# Altium schematic symbol library LimeMicroAltiumLib_schLib.SchLib: 172 symbols (part 3 of 7)
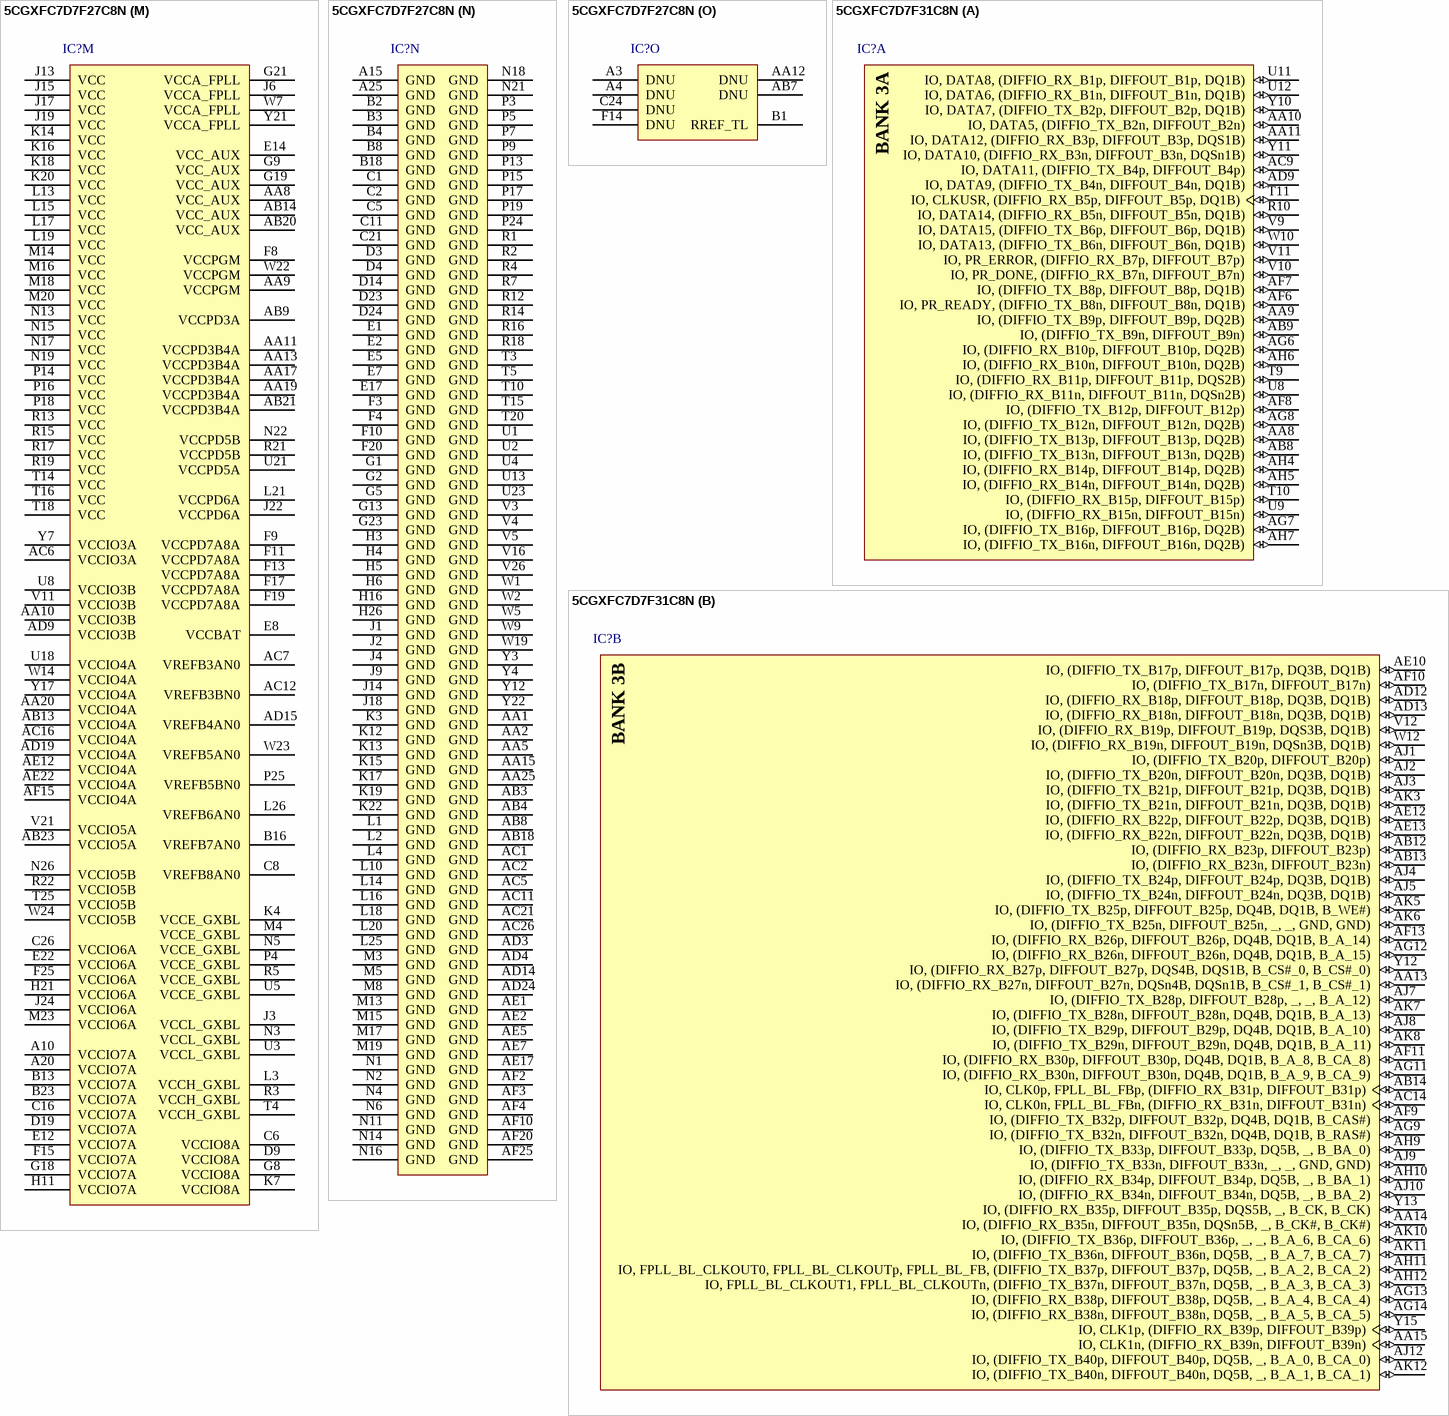
[diagram p33: symbols 5CGXFC7D7F27C8N to 5CGXFC7D7F31C8N]

## 5CGXFC7D7F27C8N
designator IC?
Cyclone V GX Family FPGA, 1.07 to 1.13 V Supply, 336 I/O Pins, 7 PLLs, 672-Pin FBGA, Speed Grade 8, Commercial Grade, RoHS Compliant; Manufacturer: Altera; Device Group: 5CGXFC7; GPIO: 336; Logic Elements (LE) (K): 149.5; Speed Grade: 8; NexusDeviceID: 5CGXFC7D7F27C8N; DatasheetVersion: Rev. 3.4; PackageVersion: Rev. 2.0, 12/2012; PackageReference: FBGA672_A-200; PackageDescription: 672-Pin FineLine Ball-Grid Array (FBGA), Body 27 x 27 mm, Pitch 1 mm; Supplier 1: Digi-Key; Supplier Part Number 1: 544-2773-ND; Supplier 2: Mouser; Supplier Part Number 2: 989-5CGXFC7D7F27C8N; RoHS: RoHS Compliant; Subcategory: Cyclone V GX; Voltage Supply: 1.07 to 1.13 V; Mounting Technology: Surface Mount; Code_JEDEC: MS-034-AAL-1; PartNumber: 5CGXFC7D7F27C8N; ComponentLink1Description: Manufacturer URL; ComponentLink1URL: http://www.altera.com; ComponentLink2Description: Datasheet; ComponentLink2URL: http://www.altera.com/literature/hb/cyclone-v/cv_51002.pdf; ComponentLink3Description: Package Specification; ComponentLink3URL: http://www.altera.com/devicepackaging/04R00427-01.pdf; ComponentLink4Description: Device Handbook URL; ComponentLink4URL: http://www.altera.com/literature/hb/cyclone-v/cyclone5_handbook.pdf; ComponentLink5Description: Device Pin-Out URL; ComponentLink5URL: http://www.altera.com/literature/dp/cyclone-v/5CGXFC7.xls; ComponentLink6Description: Device Overview URL; ComponentLink6URL: http://www.altera.com/literature/hb/cyclone-v/cv_51001.pdf; ComponentLink7Description: Product URL; ComponentLink7URL: http://www.buyaltera.com/scripts/partsearch.dll?Detail&name=5CGXFC7D7F27C8N-ND
footprint ALTR-FBGA672_A-200 (BGA, 672-Balls, Body 27x27mm, Pitch 1mm)
part A pins: AA6 IO, DATA11, (DIFFIO_TX_B4p, DIFFOUT_B4p) (io), AA7 IO, DATA13, (DIFFIO_TX_B6n, DIFFOUT_B6n, DQ1B) (io), AB6 IO, DATA9, (DIFFIO_TX_B4n, DIFFOUT_B4n, DQ1B) (io), AD6 IO, PR_READY, (DIFFIO_TX_B8n, DIFFOUT_B8n, DQ1B) (io), AD7 IO, (DIFFIO_TX_B8p, DIFFOUT_B8p, DQ1B) (io), P8 IO, PR_ERROR, (DIFFIO_RX_B7p, DIFFOUT_B7p) (io), R8 IO, PR_DONE, (DIFFIO_RX_B7n, DIFFOUT_B7n) (io), R9 IO, CLKUSR, (DIFFIO_RX_B5p, DIFFOUT_B5p, DQ1B) (io), R10 IO, DATA14, (DIFFIO_RX_B5n, DIFFOUT_B5n, DQ1B) (io), T7 IO, DATA6, (DIFFIO_RX_B1n, DIFFOUT_B1n, DQ1B) (io), T8 IO, DATA8, (DIFFIO_RX_B1p, DIFFOUT_B1p, DQ1B) (io), U7 IO, DATA5, (DIFFIO_TX_B2n, DIFFOUT_B2n) (io), V8 IO, DATA7, (DIFFIO_TX_B2p, DIFFOUT_B2p, DQ1B) (io), W8 IO, DATA10, (DIFFIO_RX_B3n, DIFFOUT_B3n, DQSn1B) (io), Y8 IO, DATA15, (DIFFIO_TX_B6p, DIFFOUT_B6p, DQ1B) (io), Y9 IO, DATA12, (DIFFIO_RX_B3p, DIFFOUT_B3p, DQS1B) (io)
part B pins: AB10 IO, (DIFFIO_TX_B28p, DIFFOUT_B28p, _, _, B_A_12) (io), AB11 IO, (DIFFIO_RX_B30n, DIFFOUT_B30n, DQ2B, _, B_A_9, B_CA_9) (io), AB12 IO, (DIFFIO_RX_B30p, DIFFOUT_B30p, DQ2B, _, B_A_8, B_CA_8) (io), AC8 IO, (DIFFIO_TX_B29n, DIFFOUT_B29n, DQ2B, _, B_A_11) (io), AC9 IO, (DIFFIO_TX_B29p, DIFFOUT_B29p, DQ2B, _, B_A_10) (io), AC10 IO, (DIFFIO_TX_B28n, DIFFOUT_B28n, DQ2B, _, B_A_13) (io), AD8 IO, (DIFFIO_RX_B34p, DIFFOUT_B34p, DQ3B, _, B_BA_1) (io), AE6 IO, (DIFFIO_TX_B40p, DIFFOUT_B40p, DQ3B, _, B_A_0, B_CA_0) (io), AE8 IO, (DIFFIO_RX_B34n, DIFFOUT_B34n, DQ3B, _, B_BA_2) (io), AE9 IO, (DIFFIO_TX_B36p, DIFFOUT_B36p, _, _, B_A_6, B_CA_6) (io), AF6 IO, (DIFFIO_TX_B40n, DIFFOUT_B40n, DQ3B, _, B_A_1, B_CA_1) (io), AF7 IO, FPLL_BL_CLKOUT0, FPLL_BL_CLKOUTp, FPLL_BL_FB, (DIFFIO_TX_B37p, DIFFOUT_B37p, DQ3B, _, B_A_2, B_CA_2) (io), AF8 IO, FPLL_BL_CLKOUT1, FPLL_BL_CLKOUTn, (DIFFIO_TX_B37n, DIFFOUT_B37n, DQ3B, _, B_A_3, B_CA_3) (io), AF9 IO, (DIFFIO_TX_B36n, DIFFOUT_B36n, DQ3B, _, B_A_7, B_CA_7) (io), N10 IO, (DIFFIO_RX_B35p, DIFFOUT_B35p, DQS3B, _, B_CK, B_CK) (io), P10 IO, (DIFFIO_RX_B35n, DIFFOUT_B35n, DQSn3B, _, B_CK#, B_CK#) (io), P11 IO, CLK1p, (DIFFIO_RX_B39p, DIFFOUT_B39p) (io), P12 IO, CLK1n, (DIFFIO_RX_B39n, DIFFOUT_B39n) (io), R11 IO, (DIFFIO_RX_B27p, DIFFOUT_B27p, DQS2B, _, B_CS#_0, B_CS#_0) (io), T9 IO, (DIFFIO_TX_B25p, DIFFOUT_B25p, DQ2B, _, B_WE#) (io), T11 IO, (DIFFIO_RX_B27n, DIFFOUT_B27n, DQSn2B, _, B_CS#_1, B_CS#_1) (io), T12 IO, CLK0n, FPLL_BL_FBn, (DIFFIO_RX_B31n, DIFFOUT_B31n) (io), T13 IO, CLK0p, FPLL_BL_FBp, (DIFFIO_RX_B31p, DIFFOUT_B31p) (io), U9 IO, (DIFFIO_TX_B25n, DIFFOUT_B25n, _, _, GND, GND) (io), U10 IO, (DIFFIO_RX_B38p, DIFFOUT_B38p, DQ3B, _, B_A_4, B_CA_4) (io), U11 IO, (DIFFIO_RX_B38n, DIFFOUT_B38n, DQ3B, _, B_A_5, B_CA_5) (io), V9 IO, (DIFFIO_TX_B33n, DIFFOUT_B33n, _, _, GND, GND) (io), V10 IO, (DIFFIO_TX_B33p, DIFFOUT_B33p, DQ3B, _, B_BA_0) (io), W10 IO, (DIFFIO_TX_B32p, DIFFOUT_B32p, DQ2B, _, B_CAS#) (io), W11 IO, (DIFFIO_RX_B26p, DIFFOUT_B26p, DQ2B, _, B_A_14) (io), Y10 IO, (DIFFIO_TX_B32n, DIFFOUT_B32n, DQ2B, _, B_RAS#) (io), Y11 IO, (DIFFIO_RX_B26n, DIFFOUT_B26n, DQ2B, _, B_A_15) (io)
part C pins: AA14 IO, (DIFFIO_RX_B42n, DIFFOUT_B42n, DQ4B, _, B_DQ_0, B_DQ_0) (io), AA16 IO, (DIFFIO_RX_B54p, DIFFOUT_B54p, DQ5B, DQ1B, B_DQ_13, B_DQ_13) (io), AA18 IO, (DIFFIO_RX_B74n, DIFFOUT_B74n, DQ8B, DQ2B, B_DQ_32, B_DQ_32) (io), AA21 IO, (DIFFIO_TX_B80n, DIFFOUT_B80n, DQ8B, DQ2B, B_DQ_39, B_DQ_39) (io), AB15 IO, (DIFFIO_RX_B50p, DIFFOUT_B50p, DQ5B, DQ1B, B_DQ_9, B_DQ_9) (io), AB16 IO, (DIFFIO_RX_B54n, DIFFOUT_B54n, DQ5B, DQ1B, B_DQ_12, B_DQ_12) (io), AB17 IO, (DIFFIO_RX_B62p, DIFFOUT_B62p, DQ6B, DQ1B, B_DQ_21, B_DQ_21) (io), AB19 IO, (DIFFIO_TX_B77p, DIFFOUT_B77p, DQ8B, DQ2B, B_DQ_38, B_DQ_38) (io), AB22 IO, (DIFFIO_TX_B80p, DIFFOUT_B80p, DQ8B, DQ2B, B_DM_4, B_DM_4) (io), AC13 IO, (DIFFIO_TX_B49n, DIFFOUT_B49n, _, _, GND, GND) (io), AC14 IO, (DIFFIO_TX_B49p, DIFFOUT_B49p, DQ5B, DQ1B, B_DQ_10, B_DQ_10) (io), AC15 IO, (DIFFIO_RX_B50n, DIFFOUT_B50n, DQ5B, DQ1B, B_DQ_8, B_DQ_8) (io), AC17 IO, (DIFFIO_RX_B62n, DIFFOUT_B62n, DQ6B, DQ1B, B_DQ_20, B_DQ_20) (io), AC18 IO, (DIFFIO_TX_B57p, DIFFOUT_B57p, DQ6B, DQ1B, B_DQ_18, B_DQ_18) (io), AC19 IO, (DIFFIO_TX_B77n, DIFFOUT_B77n, DQ8B, DQ2B, GND, GND) (io), AC20 IO, (DIFFIO_TX_B65p, DIFFOUT_B65p, DQ7B, DQ2B, B_DQ_26, B_DQ_26) (io), AD10 IO, (DIFFIO_TX_B45p, DIFFOUT_B45p, DQ4B, _, B_DQ_6, B_DQ_6) (io), AD11 IO, (DIFFIO_TX_B41p, DIFFOUT_B41p, DQ4B, _, B_DQ_2, B_DQ_2) (io), AD12 IO, (DIFFIO_TX_B44n, DIFFOUT_B44n, DQ4B, _, B_DQ_3, B_DQ_3) (io), AD13 IO, (DIFFIO_TX_B44p, DIFFOUT_B44p, _, _, B_ODT_0, B_ODT_0) (io), AD16 IO, (DIFFIO_RX_B58n, DIFFOUT_B58n, DQ6B, DQ1B, B_DQ_16, B_DQ_16) (io), AD17 IO, (DIFFIO_RX_B58p, DIFFOUT_B58p, DQ6B, DQ1B, B_DQ_17, B_DQ_17) (io), AD18 IO, (DIFFIO_TX_B57n, DIFFOUT_B57n, _, _, GND, GND) (io), AD20 IO, (DIFFIO_TX_B65n, DIFFOUT_B65n, _, _, GND, GND) (io), AD21 IO, (DIFFIO_TX_B68n, DIFFOUT_B68n, DQ7B, DQ2B, B_DQ_27, B_DQ_27) (io), AD22 IO, (DIFFIO_TX_B68p, DIFFOUT_B68p, _, _, GND, GND) (io), AD23 IO, (DIFFIO_TX_B69p, DIFFOUT_B69p, DQ7B, DQ2B, B_DQ_30, B_DQ_30) (io), AD26 IO, (DIFFIO_TX_B76p, DIFFOUT_B76p, _, _, GND, GND) (io), AE10 IO, (DIFFIO_TX_B45n, DIFFOUT_B45n, DQ4B, _, B_ODT_1, B_ODT_1) (io), AE11 IO, RZQ_0, (DIFFIO_TX_B41n, DIFFOUT_B41n) (io), AE13 IO, (DIFFIO_TX_B52p, DIFFOUT_B52p, _, _, B_CKE_1, B_CKE_1) (io), AE14 IO, (DIFFIO_TX_B53p, DIFFOUT_B53p, DQ5B, DQ1B, B_DQ_14, B_DQ_14) (io), AE15 IO, (DIFFIO_RX_B66n, DIFFOUT_B66n, DQ7B, DQ2B, B_DQ_24, B_DQ_24) (io), AE16 IO, (DIFFIO_RX_B66p, DIFFOUT_B66p, DQ7B, DQ2B, B_DQ_25, B_DQ_25) (io), AE18 IO, (DIFFIO_TX_B56p, DIFFOUT_B56p, DQ5B, DQ1B, B_DM_1, B_DM_1) (io), AE19 IO, (DIFFIO_TX_B60p, DIFFOUT_B60p, _, _, B_RESET#, B_RESET#) (io), AE20 IO, (DIFFIO_TX_B64p, DIFFOUT_B64p, DQ6B, DQ1B, B_DM_2, B_DM_2) (io), AE21 IO, (DIFFIO_TX_B64n, DIFFOUT_B64n, DQ6B, DQ1B, B_DQ_23, B_DQ_23) (io), AE23 IO, (DIFFIO_TX_B69n, DIFFOUT_B69n, DQ7B, DQ2B, GND, GND) (io), AE24 IO, (DIFFIO_TX_B72p, DIFFOUT_B72p, DQ7B, DQ2B, B_DM_3, B_DM_3) (io), AE25 IO, (DIFFIO_TX_B73p, DIFFOUT_B73p, DQ8B, DQ2B, B_DQ_34, B_DQ_34) (io), AE26 IO, (DIFFIO_TX_B76n, DIFFOUT_B76n, DQ8B, DQ2B, B_DQ_35, B_DQ_35) (io), AF11 IO, (DIFFIO_TX_B48p, DIFFOUT_B48p, DQ4B, _, B_DM_0, B_DM_0) (io), AF12 IO, (DIFFIO_TX_B48n, DIFFOUT_B48n, DQ4B, _, B_DQ_7, B_DQ_7) (io), AF13 IO, (DIFFIO_TX_B52n, DIFFOUT_B52n, DQ5B, DQ1B, B_DQ_11, B_DQ_11) (io), AF14 IO, (DIFFIO_TX_B53n, DIFFOUT_B53n, DQ5B, DQ1B, B_CKE_0, B_CKE_0) (io), AF16 IO, (DIFFIO_RX_B70n, DIFFOUT_B70n, DQ7B, DQ2B, B_DQ_28, B_DQ_28) (io), AF17 IO, (DIFFIO_RX_B70p, DIFFOUT_B70p, DQ7B, DQ2B, B_DQ_29, B_DQ_29) (io), AF18 IO, (DIFFIO_TX_B56n, DIFFOUT_B56n, DQ5B, DQ1B, B_DQ_15, B_DQ_15) (io), AF19 IO, (DIFFIO_TX_B60n, DIFFOUT_B60n, DQ6B, DQ1B, B_DQ_19, B_DQ_19) (io), AF21 IO, (DIFFIO_TX_B61p, DIFFOUT_B61p, DQ6B, DQ1B, B_DQ_22, B_DQ_22) (io), AF22 IO, (DIFFIO_TX_B61n, DIFFOUT_B61n, DQ6B, DQ1B, GND, GND) (io), AF23 IO, (DIFFIO_TX_B72n, DIFFOUT_B72n, DQ7B, DQ2B, B_DQ_31, B_DQ_31) (io), AF24 IO, (DIFFIO_TX_B73n, DIFFOUT_B73n, _, _, GND, GND) (io), T17 IO, (DIFFIO_RX_B63p, DIFFOUT_B63p, _, _, GND, GND) (io), U12 IO, CLK2p, (DIFFIO_RX_B47p, DIFFOUT_B47p) (io), U14 IO, (DIFFIO_RX_B51p, DIFFOUT_B51p, DQS5B, DQ1B, B_DQS_1, B_DQS_1) (io), U15 IO, (DIFFIO_RX_B71p, DIFFOUT_B71p, _, _, GND, GND) (io), U16 IO, (DIFFIO_RX_B71n, DIFFOUT_B71n, _, _, GND, GND) (io), U17 IO, (DIFFIO_RX_B63n, DIFFOUT_B63n, _, _, GND, GND) (io), V12 IO, CLK2n, (DIFFIO_RX_B47n, DIFFOUT_B47n) (io), V13 IO, (DIFFIO_RX_B43p, DIFFOUT_B43p, DQS4B, _, B_DQS_0, B_DQS_0) (io), V14 IO, (DIFFIO_RX_B51n, DIFFOUT_B51n, DQSn5B, DQ1B, B_DQS#_1, B_DQS#_1) (io), V15 IO, (DIFFIO_RX_B59p, DIFFOUT_B59p, DQS6B, DQS1B, B_DQS_2, B_DQS_2) (io), V17 IO, (DIFFIO_RX_B75n, DIFFOUT_B75n, DQSn8B, DQSn2B, B_DQS#_4, B_DQS#_4) (io), V18 IO, (DIFFIO_RX_B75p, DIFFOUT_B75p, DQS8B, DQS2B, B_DQS_4, B_DQS_4) (io), V19 IO, (DIFFIO_RX_B79p, DIFFOUT_B79p, _, _, GND, GND) (io), W12 IO, (DIFFIO_RX_B46p, DIFFOUT_B46p, DQ4B, _, B_DQ_5, B_DQ_5) (io), W13 IO, (DIFFIO_RX_B43n, DIFFOUT_B43n, DQSn4B, _, B_DQS#_0, B_DQS#_0) (io), W15 IO, (DIFFIO_RX_B59n, DIFFOUT_B59n, DQSn6B, DQSn1B, B_DQS#_2, B_DQS#_2) (io), W16 IO, (DIFFIO_RX_B67p, DIFFOUT_B67p, DQS7B, DQ2B, B_DQS_3, B_DQS_3) (io), W17 IO, (DIFFIO_RX_B67n, DIFFOUT_B67n, DQSn7B, DQ2B, B_DQS#_3, B_DQS#_3) (io), W18 IO, (DIFFIO_RX_B79n, DIFFOUT_B79n, _, _, GND, GND) (io), Y13 IO, (DIFFIO_RX_B46n, DIFFOUT_B46n, DQ4B, _, B_DQ_4, B_DQ_4) (io), Y14 IO, (DIFFIO_RX_B42p, DIFFOUT_B42p, DQ4B, _, B_DQ_1, B_DQ_1) (io), Y15 IO, CLK3p, (DIFFIO_RX_B55p, DIFFOUT_B55p) (io), Y16 IO, CLK3n, (DIFFIO_RX_B55n, DIFFOUT_B55n) (io), Y18 IO, (DIFFIO_RX_B74p, DIFFOUT_B74p, DQ8B, DQ2B, B_DQ_33, B_DQ_33) (io), Y19 IO, (DIFFIO_RX_B78n, DIFFOUT_B78n, DQ8B, DQ2B, B_DQ_36, B_DQ_36) (io), Y20 IO, (DIFFIO_RX_B78p, DIFFOUT_B78p, DQ8B, DQ2B, B_DQ_37, B_DQ_37) (io)
part D pins: AA22 IO, nCEO, (DIFFIO_TX_R3p, DIFFOUT_R3p, DQ1R) (io), AA23 IO, CvP_CONFDONE, (DIFFIO_TX_R3n, DIFFOUT_R3n, DQ1R) (io), AB24 IO, DEV_CLRn, (DIFFIO_TX_R5n, DIFFOUT_R5n, DQ1R) (io), AC22 IO, RZQ_1, (DIFFIO_TX_R1p, DIFFOUT_R1p, DQ1R) (io), AC23 IO, PR_REQUEST, (DIFFIO_TX_R1n, DIFFOUT_R1n, DQ1R) (io), AC24 IO, DEV_OE, (DIFFIO_TX_R5p, DIFFOUT_R5p) (io), T19 IO, (DIFFIO_RX_R8p, DIFFOUT_R8p, DQ1R) (io), U19 IO, INIT_DONE, (DIFFIO_RX_R2p, DIFFOUT_R2p) (io), U20 IO, (DIFFIO_RX_R8n, DIFFOUT_R8n, DQ1R) (io), U22 IO, nPERSTL1, (DIFFIO_RX_R6n, DIFFOUT_R6n, DQSn1R) (io), V20 IO, CRC_ERROR, (DIFFIO_RX_R2n, DIFFOUT_R2n) (io), V22 IO, nPERSTL0, (DIFFIO_RX_R6p, DIFFOUT_R6p, DQS1R) (io), W20 IO, (DIFFIO_RX_R4p, DIFFOUT_R4p, DQ1R) (io), W21 IO, (DIFFIO_RX_R4n, DIFFOUT_R4n, DQ1R) (io), Y23 IO, (DIFFIO_TX_R7p, DIFFOUT_R7p, DQ1R) (io), Y24 IO, (DIFFIO_TX_R7n, DIFFOUT_R7n) (io)
part E pins: AA24 IO, (DIFFIO_TX_R28p, DIFFOUT_R28p, DQ2R) (io), AA26 IO, (DIFFIO_TX_R34n, DIFFOUT_R34n, DQ3R) (io), AB25 IO, (DIFFIO_TX_R28n, DIFFOUT_R28n, DQ2R) (io), AB26 IO, (DIFFIO_TX_R34p, DIFFOUT_R34p, DQ3R) (io), AC25 IO, (DIFFIO_TX_R30n, DIFFOUT_R30n, DQ2R) (io), AD25 IO, (DIFFIO_TX_R30p, DIFFOUT_R30p) (io), N25 IO, (DIFFIO_RX_R39p, DIFFOUT_R39p, DQ3R) (io), P20 IO, CLK6n, (DIFFIO_RX_R33n, DIFFOUT_R33n) (io), P21 IO, (DIFFIO_RX_R37p, DIFFOUT_R37p, DQS3R) (io), P22 IO, (DIFFIO_RX_R37n, DIFFOUT_R37n, DQSn3R) (io), P23 IO, (DIFFIO_RX_R29n, DIFFOUT_R29n, DQSn2R) (io), P26 IO, (DIFFIO_RX_R39n, DIFFOUT_R39n, DQ3R) (io), R20 IO, CLK6p, (DIFFIO_RX_R33p, DIFFOUT_R33p) (io), R23 IO, (DIFFIO_RX_R29p, DIFFOUT_R29p, DQS2R) (io), R24 IO, (DIFFIO_RX_R31p, DIFFOUT_R31p, DQ2R) (io), R25 IO, (DIFFIO_RX_R31n, DIFFOUT_R31n, DQ2R) (io), R26 IO, (DIFFIO_RX_R35n, DIFFOUT_R35n, DQ3R) (io), T21 IO, CLK7p, FPLL_BR_FBp, (DIFFIO_RX_R25p, DIFFOUT_R25p) (io), T22 IO, CLK7n, FPLL_BR_FBn, (DIFFIO_RX_R25n, DIFFOUT_R25n) (io), T23 IO, (DIFFIO_RX_R27p, DIFFOUT_R27p, DQ2R) (io), T24 IO, (DIFFIO_RX_R27n, DIFFOUT_R27n, DQ2R) (io), T26 IO, (DIFFIO_RX_R35p, DIFFOUT_R35p, DQ3R) (io), U24 IO, (DIFFIO_TX_R32p, DIFFOUT_R32p, DQ2R) (io), U25 IO, (DIFFIO_TX_R40p, DIFFOUT_R40p, DQ3R) (io), U26 IO, (DIFFIO_TX_R40n, DIFFOUT_R40n) (io), V23 IO, (DIFFIO_TX_R26p, DIFFOUT_R26p, DQ2R) (io), V24 IO, (DIFFIO_TX_R26n, DIFFOUT_R26n, DQ2R) (io), V25 IO, (DIFFIO_TX_R32n, DIFFOUT_R32n) (io), W25 IO, (DIFFIO_TX_R38p, DIFFOUT_R38p) (io), W26 IO, (DIFFIO_TX_R38n, DIFFOUT_R38n, DQ3R) (io), Y25 IO, FPLL_BR_CLKOUT0, FPLL_BR_CLKOUTp, FPLL_BR_FB, (DIFFIO_TX_R36p, DIFFOUT_R36p, DQ3R) (io), Y26 IO, FPLL_BR_CLKOUT1, FPLL_BR_CLKOUTn, (DIFFIO_TX_R36n, DIFFOUT_R36n, DQ3R) (io)
part F pins: B25 IO, (DIFFIO_TX_R66p, DIFFOUT_R66p, DQ6R) (io), B26 IO, (DIFFIO_TX_R66n, DIFFOUT_R66n, DQ6R) (io), C25 IO, (DIFFIO_TX_R68n, DIFFOUT_R68n, DQ6R) (io), D22 IO, (DIFFIO_TX_R70p, DIFFOUT_R70p) (io), D25 IO, (DIFFIO_TX_R68p, DIFFOUT_R68p, DQ6R) (io), D26 IO, (DIFFIO_TX_R48p, DIFFOUT_R48p, DQ4R) (io), E21 IO, (DIFFIO_TX_R72p, DIFFOUT_R72p, DQ6R) (io), E23 IO, (DIFFIO_TX_R70n, DIFFOUT_R70n, DQ6R) (io), E24 IO, (DIFFIO_TX_R50p, DIFFOUT_R50p, DQ5R) (io), E25 IO, (DIFFIO_TX_R50n, DIFFOUT_R50n, DQ5R) (io), E26 IO, (DIFFIO_TX_R48n, DIFFOUT_R48n) (io), F21 IO, (DIFFIO_RX_R71n, DIFFOUT_R71n, DQ6R) (io), F22 IO, (DIFFIO_TX_R72n, DIFFOUT_R72n) (io), F23 IO, (DIFFIO_TX_R56p, DIFFOUT_R56p, DQ5R) (io), F24 IO, (DIFFIO_TX_R52p, DIFFOUT_R52p, DQ5R) (io), F26 IO, FPLL_TR_CLKOUT0, FPLL_TR_CLKOUTp, FPLL_TR_FB, (DIFFIO_TX_R44p, DIFFOUT_R44p, DQ4R) (io), G20 IO, (DIFFIO_RX_R71p, DIFFOUT_R71p, DQ6R) (io), G22 IO, (DIFFIO_TX_R56n, DIFFOUT_R56n) (io), G24 IO, (DIFFIO_TX_R52n, DIFFOUT_R52n, DQ5R) (io), G25 IO, (DIFFIO_TX_R46p, DIFFOUT_R46p) (io), G26 IO, FPLL_TR_CLKOUT1, FPLL_TR_CLKOUTn, (DIFFIO_TX_R44n, DIFFOUT_R44n, DQ4R) (io), H19 IO, (DIFFIO_RX_R67p, DIFFOUT_R67p, DQ6R) (io), H20 IO, (DIFFIO_RX_R67n, DIFFOUT_R67n, DQ6R) (io), H22 IO, (DIFFIO_RX_R55p, DIFFOUT_R55p, DQ5R) (io), H23 IO, (DIFFIO_TX_R54p, DIFFOUT_R54p) (io), H24 IO, (DIFFIO_TX_R54n, DIFFOUT_R54n, DQ5R) (io), H25 IO, (DIFFIO_TX_R46n, DIFFOUT_R46n, DQ4R) (io), J20 IO, (DIFFIO_RX_R69p, DIFFOUT_R69p, DQS6R) (io), J21 IO, (DIFFIO_RX_R69n, DIFFOUT_R69n, DQSn6R) (io), J23 IO, (DIFFIO_RX_R55n, DIFFOUT_R55n, DQ5R) (io), J25 IO, (DIFFIO_TX_R42p, DIFFOUT_R42p, DQ4R) (io), J26 IO, (DIFFIO_TX_R42n, DIFFOUT_R42n, DQ4R) (io), K21 IO, (DIFFIO_RX_R65n, DIFFOUT_R65n) (io), K23 IO, (DIFFIO_RX_R51n, DIFFOUT_R51n, DQ5R) (io), K24 IO, (DIFFIO_RX_R51p, DIFFOUT_R51p, DQ5R) (io), K25 IO, CLK4p, FPLL_TR_FBp, (DIFFIO_RX_R49p, DIFFOUT_R49p) (io), K26 IO, CLK4n, FPLL_TR_FBn, (DIFFIO_RX_R49n, DIFFOUT_R49n) (io), L22 IO, (DIFFIO_RX_R65p, DIFFOUT_R65p) (io), L23 IO, (DIFFIO_RX_R53p, DIFFOUT_R53p, DQS5R) (io), L24 IO, (DIFFIO_RX_R53n, DIFFOUT_R53n, DQSn5R) (io), M21 IO, CLK5n, (DIFFIO_RX_R41n, DIFFOUT_R41n) (io), M22 IO, (DIFFIO_RX_R45n, DIFFOUT_R45n, DQSn4R) (io), M24 IO, (DIFFIO_RX_R43n, DIFFOUT_R43n, DQ4R) (io), M25 IO, (DIFFIO_RX_R47p, DIFFOUT_R47p, DQ4R) (io), M26 IO, (DIFFIO_RX_R47n, DIFFOUT_R47n, DQ4R) (io), N20 IO, CLK5p, (DIFFIO_RX_R41p, DIFFOUT_R41p) (io), N23 IO, (DIFFIO_RX_R45p, DIFFOUT_R45p, DQS4R) (io), N24 IO, (DIFFIO_RX_R43p, DIFFOUT_R43p, DQ4R) (io)
part G pins: A8 IO, (DIFFIO_TX_T24p, DIFFOUT_T24p, DQ3T, DQ2T, T_DQ_18, T_DQ_18) (io), A9 IO, (DIFFIO_TX_T24n, DIFFOUT_T24n, _, _, GND, GND) (io), A11 IO, (DIFFIO_TX_T30n, DIFFOUT_T30n, DQ4T, DQ2T, T_DQ_11, T_DQ_11) (io), A12 IO, (DIFFIO_TX_T36p, DIFFOUT_T36p, DQ5T, _, T_DQ_6, T_DQ_6) (io), A13 IO, (DIFFIO_TX_T34n, DIFFOUT_T34n, DQ5T, _, T_DQ_7, T_DQ_7) (io), A14 IO, (DIFFIO_TX_T20p, DIFFOUT_T20p, DQ3T, DQ2T, T_DQ_22, T_DQ_22) (io), A16 IO, (DIFFIO_TX_T16n, DIFFOUT_T16n, _, _, GND, GND) (io), A17 IO, (DIFFIO_TX_T16p, DIFFOUT_T16p, DQ2T, DQ1T, T_DQ_26, T_DQ_26) (io), A18 IO, (DIFFIO_TX_T14n, DIFFOUT_T14n, DQ2T, DQ1T, T_DQ_27, T_DQ_27) (io), A19 IO, (DIFFIO_TX_T14p, DIFFOUT_T14p, _, _, GND, GND) (io), A21 IO, (DIFFIO_TX_T6n, DIFFOUT_T6n, DQ1T, DQ1T, T_DQ_35, T_DQ_35) (io), A22 IO, (DIFFIO_TX_T4n, DIFFOUT_T4n, DQ1T, DQ1T, GND, GND) (io), A23 IO, (DIFFIO_TX_T4p, DIFFOUT_T4p, DQ1T, DQ1T, T_DQ_38, T_DQ_38) (io), A24 IO, (DIFFIO_RX_T3n, DIFFOUT_T3n, DQ1T, DQ1T, T_DQ_36, T_DQ_36) (io), B9 IO, (DIFFIO_TX_T26n, DIFFOUT_T26n, DQ4T, DQ2T, T_DQ_15, T_DQ_15) (io), B10 IO, (DIFFIO_TX_T30p, DIFFOUT_T30p, _, _, T_CKE_1, T_CKE_1) (io), B11 IO, (DIFFIO_TX_T36n, DIFFOUT_T36n, DQ5T, _, T_ODT_1, T_ODT_1) (io), B12 IO, (DIFFIO_TX_T34p, DIFFOUT_T34p, DQ5T, _, T_DM_0, T_DM_0) (io), B14 IO, (DIFFIO_TX_T20n, DIFFOUT_T20n, DQ3T, DQ2T, GND, GND) (io), B15 IO, (DIFFIO_TX_T22p, DIFFOUT_T22p, _, _, T_RESET#, T_RESET#) (io), B17 IO, (DIFFIO_TX_T18n, DIFFOUT_T18n, DQ3T, DQ2T, T_DQ_23, T_DQ_23) (io), B19 IO, (DIFFIO_TX_T10n, DIFFOUT_T10n, DQ2T, DQ1T, T_DQ_31, T_DQ_31) (io), B20 IO, (DIFFIO_TX_T8n, DIFFOUT_T8n, _, _, GND, GND) (io), B21 IO, (DIFFIO_TX_T8p, DIFFOUT_T8p, DQ1T, DQ1T, T_DQ_34, T_DQ_34) (io), B22 IO, (DIFFIO_TX_T6p, DIFFOUT_T6p, _, _, GND, GND) (io), B24 IO, (DIFFIO_RX_T3p, DIFFOUT_T3p, DQ1T, DQ1T, T_DQ_37, T_DQ_37) (io), C9 IO, (DIFFIO_TX_T26p, DIFFOUT_T26p, DQ4T, DQ2T, T_DM_1, T_DM_1) (io), C10 IO, (DIFFIO_TX_T28n, DIFFOUT_T28n, DQ4T, DQ2T, T_CKE_0, T_CKE_0) (io), C12 IO, (DIFFIO_TX_T38n, DIFFOUT_T38n, DQ5T, _, T_DQ_3, T_DQ_3) (io), C13 IO, (DIFFIO_TX_T38p, DIFFOUT_T38p, _, _, T_ODT_0, T_ODT_0) (io), C14 IO, (DIFFIO_RX_T23p, DIFFOUT_T23p, DQ3T, DQ2T, T_DQ_17, T_DQ_17) (io), C15 IO, (DIFFIO_TX_T22n, DIFFOUT_T22n, DQ3T, DQ2T, T_DQ_19, T_DQ_19) (io), C17 IO, (DIFFIO_TX_T18p, DIFFOUT_T18p, DQ3T, DQ2T, T_DM_2, T_DM_2) (io), C18 IO, (DIFFIO_TX_T12n, DIFFOUT_T12n, DQ2T, DQ1T, GND, GND) (io), C19 IO, (DIFFIO_TX_T12p, DIFFOUT_T12p, DQ2T, DQ1T, T_DQ_30, T_DQ_30) (io), C20 IO, (DIFFIO_TX_T10p, DIFFOUT_T10p, DQ2T, DQ1T, T_DM_3, T_DM_3) (io), C22 IO, (DIFFIO_TX_T2n, DIFFOUT_T2n, DQ1T, DQ1T, T_DQ_39, T_DQ_39) (io), C23 IO, (DIFFIO_TX_T2p, DIFFOUT_T2p, DQ1T, DQ1T, T_DM_4, T_DM_4) (io), D10 IO, (DIFFIO_TX_T28p, DIFFOUT_T28p, DQ4T, DQ2T, T_DQ_14, T_DQ_14) (io), D11 IO, (DIFFIO_TX_T40p, DIFFOUT_T40p, DQ5T, _, T_DQ_2, T_DQ_2) (io), D12 IO, RZQ_2, (DIFFIO_TX_T40n, DIFFOUT_T40n) (io), D13 IO, (DIFFIO_RX_T39n, DIFFOUT_T39n, DQ5T, _, T_DQ_0, T_DQ_0) (io), D15 IO, (DIFFIO_RX_T23n, DIFFOUT_T23n, DQ3T, DQ2T, T_DQ_16, T_DQ_16) (io), D16 IO, (DIFFIO_RX_T27n, DIFFOUT_T27n, DQ4T, DQ2T, T_DQ_12, T_DQ_12) (io), D17 IO, (DIFFIO_RX_T15n, DIFFOUT_T15n, DQ2T, DQ1T, T_DQ_24, T_DQ_24) (io), D18 IO, (DIFFIO_RX_T15p, DIFFOUT_T15p, DQ2T, DQ1T, T_DQ_25, T_DQ_25) (io), D20 IO, (DIFFIO_RX_T7n, DIFFOUT_T7n, DQ1T, DQ1T, T_DQ_32, T_DQ_32) (io), D21 IO, (DIFFIO_RX_T7p, DIFFOUT_T7p, DQ1T, DQ1T, T_DQ_33, T_DQ_33) (io), E10 IO, (DIFFIO_TX_T32p, DIFFOUT_T32p, DQ4T, DQ2T, T_DQ_10, T_DQ_10) (io), E11 IO, (DIFFIO_TX_T32n, DIFFOUT_T32n, _, _, GND, GND) (io), E13 IO, (DIFFIO_RX_T39p, DIFFOUT_T39p, DQ5T, _, T_DQ_1, T_DQ_1) (io), E15 IO, (DIFFIO_RX_T31n, DIFFOUT_T31n, DQ4T, DQ2T, T_DQ_8, T_DQ_8) (io), E16 IO, (DIFFIO_RX_T27p, DIFFOUT_T27p, DQ4T, DQ2T, T_DQ_13, T_DQ_13) (io), E18 IO, (DIFFIO_RX_T19p, DIFFOUT_T19p, DQ3T, DQ2T, T_DQ_21, T_DQ_21) (io), E19 IO, (DIFFIO_RX_T11n, DIFFOUT_T11n, DQ2T, DQ1T, T_DQ_28, T_DQ_28) (io), E20 IO, (DIFFIO_RX_T11p, DIFFOUT_T11p, DQ2T, DQ1T, T_DQ_29, T_DQ_29) (io), F12 IO, (DIFFIO_RX_T35n, DIFFOUT_T35n, DQ5T, _, T_DQ_4, T_DQ_4) (io), F16 IO, (DIFFIO_RX_T31p, DIFFOUT_T31p, DQ4T, DQ2T, T_DQ_9, T_DQ_9) (io), F18 IO, (DIFFIO_RX_T19n, DIFFOUT_T19n, DQ3T, DQ2T, T_DQ_20, T_DQ_20) (io), G11 IO, CLK10n, (DIFFIO_RX_T33n, DIFFOUT_T33n) (io), G12 IO, (DIFFIO_RX_T35p, DIFFOUT_T35p, DQ5T, _, T_DQ_5, T_DQ_5) (io), G14 IO, CLK11n, (DIFFIO_RX_T25n, DIFFOUT_T25n) (io), G15 IO, CLK11p, (DIFFIO_RX_T25p, DIFFOUT_T25p) (io), G16 IO, (DIFFIO_RX_T9p, DIFFOUT_T9p, _, _, GND, GND) (io), G17 IO, (DIFFIO_RX_T9n, DIFFOUT_T9n, _, _, GND, GND) (io), H12 IO, CLK10p, (DIFFIO_RX_T33p, DIFFOUT_T33p) (io), H13 IO, (DIFFIO_RX_T17n, DIFFOUT_T17n, _, _, GND, GND) (io), H14 IO, (DIFFIO_RX_T17p, DIFFOUT_T17p, _, _, GND, GND) (io), H15 IO, (DIFFIO_RX_T1p, DIFFOUT_T1p, _, _, GND, GND) (io), H17 IO, (DIFFIO_RX_T5n, DIFFOUT_T5n, DQSn1T, DQSn1T, T_DQS#_4, T_DQS#_4) (io), H18 IO, (DIFFIO_RX_T5p, DIFFOUT_T5p, DQS1T, DQS1T, T_DQS_4, T_DQS_4) (io), J11 IO, (DIFFIO_RX_T13n, DIFFOUT_T13n, DQSn2T, DQ1T, T_DQS#_3, T_DQS#_3) (io), J12 IO, (DIFFIO_RX_T13p, DIFFOUT_T13p, DQS2T, DQ1T, T_DQS_3, T_DQS_3) (io), J16 IO, (DIFFIO_RX_T1n, DIFFOUT_T1n, _, _, GND, GND) (io), K11 IO, (DIFFIO_RX_T21n, DIFFOUT_T21n, DQSn3T, DQSn2T, T_DQS#_2, T_DQS#_2) (io), L11 IO, (DIFFIO_RX_T37n, DIFFOUT_T37n, DQSn5T, _, T_DQS#_0, T_DQS#_0) (io), L12 IO, (DIFFIO_RX_T21p, DIFFOUT_T21p, DQS3T, DQS2T, T_DQS_2, T_DQS_2) (io), M11 IO, (DIFFIO_RX_T37p, DIFFOUT_T37p, DQS5T, _, T_DQS_0, T_DQS_0) (io), M12 IO, (DIFFIO_RX_T29n, DIFFOUT_T29n, DQSn4T, DQ2T, T_DQS#_1, T_DQS#_1) (io), N12 IO, (DIFFIO_RX_T29p, DIFFOUT_T29p, DQS4T, DQ2T, T_DQS_1, T_DQS_1) (io)
part H pins: A5 IO, (DIFFIO_TX_T42p, DIFFOUT_T42p, DQ6T, _, T_A_0, T_CA_0) (io), A7 IO, FPLL_TL_CLKOUT0, FPLL_TL_CLKOUTp, FPLL_TL_FB, (DIFFIO_TX_T44p, DIFFOUT_T44p, DQ6T, _, T_A_2, T_CA_2) (io), B6 IO, (DIFFIO_TX_T42n, DIFFOUT_T42n, DQ6T, _, T_A_1, T_CA_1) (io), B7 IO, FPLL_TL_CLKOUT1, FPLL_TL_CLKOUTn, (DIFFIO_TX_T44n, DIFFOUT_T44n, DQ6T, _, T_A_3, T_CA_3) (io), C7 IO, (DIFFIO_TX_T48n, DIFFOUT_T48n, _, _, GND, GND) (io), D6 IO, (DIFFIO_TX_T46p, DIFFOUT_T46p, _, _, T_A_6, T_CA_6) (io), D7 IO, (DIFFIO_TX_T48p, DIFFOUT_T48p, DQ6T, _, T_BA_0) (io), D8 IO, (DIFFIO_TX_T56p, DIFFOUT_T56p, DQ7T, _, T_WE#) (io), E6 IO, (DIFFIO_TX_T46n, DIFFOUT_T46n, DQ6T, _, T_A_7, T_CA_7) (io), E9 IO, (DIFFIO_TX_T56n, DIFFOUT_T56n, _, _, GND, GND) (io), F6 IO, (DIFFIO_TX_T50p, DIFFOUT_T50p, DQ7T, _, T_CAS#) (io), F7 IO, (DIFFIO_TX_T52n, DIFFOUT_T52n, DQ7T, _, T_A_11) (io), G6 IO, (DIFFIO_TX_T50n, DIFFOUT_T50n, DQ7T, _, T_RAS#) (io), G7 IO, (DIFFIO_TX_T52p, DIFFOUT_T52p, DQ7T, _, T_A_10) (io), G10 IO, (DIFFIO_RX_T47n, DIFFOUT_T47n, DQ6T, _, T_BA_2) (io), H7 IO, (DIFFIO_TX_T54p, DIFFOUT_T54p, _, _, T_A_12) (io), H8 IO, (DIFFIO_RX_T43p, DIFFOUT_T43p, DQ6T, _, T_A_4, T_CA_4) (io), H9 IO, (DIFFIO_RX_T43n, DIFFOUT_T43n, DQ6T, _, T_A_5, T_CA_5) (io), H10 IO, (DIFFIO_RX_T47p, DIFFOUT_T47p, DQ6T, _, T_BA_1) (io), J7 IO, (DIFFIO_TX_T54n, DIFFOUT_T54n, DQ7T, _, T_A_13) (io), J8 IO, (DIFFIO_RX_T51n, DIFFOUT_T51n, DQ7T, _, T_A_9, T_CA_9) (io), J10 IO, (DIFFIO_RX_T53n, DIFFOUT_T53n, DQSn7T, _, T_CS#_1, T_CS#_1) (io), K6 IO, (DIFFIO_RX_T55n, DIFFOUT_T55n, DQ7T, _, T_A_15) (io), K8 IO, (DIFFIO_RX_T51p, DIFFOUT_T51p, DQ7T, _, T_A_8, T_CA_8) (io), K9 IO, CLK8n, FPLL_TL_FBn, (DIFFIO_RX_T49n, DIFFOUT_T49n) (io), K10 IO, (DIFFIO_RX_T53p, DIFFOUT_T53p, DQS7T, _, T_CS#_0, T_CS#_0) (io), L7 IO, (DIFFIO_RX_T55p, DIFFOUT_T55p, DQ7T, _, T_A_14) (io), L8 IO, CLK8p, FPLL_TL_FBp, (DIFFIO_RX_T49p, DIFFOUT_T49p) (io), L9 IO, (DIFFIO_RX_T45n, DIFFOUT_T45n, DQSn6T, _, T_CK#, T_CK#) (io), M9 IO, (DIFFIO_RX_T45p, DIFFOUT_T45p, DQS6T, _, T_CK, T_CK) (io), M10 IO, CLK9n, (DIFFIO_RX_T41n, DIFFOUT_T41n) (io), N9 IO, CLK9p, (DIFFIO_RX_T41p, DIFFOUT_T41p) (io)
part I pins: AA3 GXB_TX_L2n (out), AA4 GXB_TX_L2p (out), AB1 GXB_RX_L1n, GXB_REFCLK_L1n (in), AB2 GXB_RX_L1p, GXB_REFCLK_L1p (in), AC3 GXB_TX_L1n (out), AC4 GXB_TX_L1p (out), AD1 GXB_RX_L0n, GXB_REFCLK_L0n (in), AD2 GXB_RX_L0p, GXB_REFCLK_L0p (in), AE3 GXB_TX_L0n (out), AE4 GXB_TX_L0p (out), V6 REFCLK0Lp (in), W6 REFCLK0Ln (in), Y1 GXB_RX_L2n, GXB_REFCLK_L2n (in), Y2 GXB_RX_L2p, GXB_REFCLK_L2p (in)
part J pins: K1 GXB_TX_L5n (out), K2 GXB_TX_L5p (out), M1 GXB_RX_L5n, GXB_REFCLK_L5n (in), M2 GXB_RX_L5p, GXB_REFCLK_L5p (in), N7 REFCLK1Lp (in), P1 GXB_TX_L4n (out), P2 GXB_TX_L4p (out), P6 REFCLK1Ln (in), T1 GXB_RX_L4n, GXB_REFCLK_L4n (in), T2 GXB_RX_L4p, GXB_REFCLK_L4p (in), V1 GXB_RX_L3n, GXB_REFCLK_L3n (in), V2 GXB_RX_L3p, GXB_REFCLK_L3p (in), W3 GXB_TX_L3n (out), W4 GXB_TX_L3p (out)
part K pins: C3 GXB_TX_L8n (out), C4 GXB_TX_L8p (out), D1 GXB_RX_L8n, GXB_REFCLK_L8n (in), D2 GXB_RX_L8p, GXB_REFCLK_L8p (in), E3 GXB_TX_L7n (out), E4 GXB_TX_L7p (out), F1 GXB_RX_L7n, GXB_REFCLK_L7n (in), F2 GXB_RX_L7p, GXB_REFCLK_L7p (in), G3 GXB_TX_L6n (out), G4 GXB_TX_L6p (out), H1 GXB_RX_L6n, GXB_REFCLK_L6n (in), H2 GXB_RX_L6p, GXB_REFCLK_L6p (in), L5 REFCLK2Ln (in), M6 REFCLK2Lp (in)
part L pins: A2 MSEL2 (in), A6 CONF_DONE (io), AB5 AS_DATA2, DATA2 (io), AD5 AS_DATA1, DATA1 (io), AF5 AS_DATA0, ASDO, DATA0 (io), B5 nSTATUS (io), D5 nCE (in), F5 nCONFIG (in), J5 MSEL4 (in), K5 MSEL3 (in), L6 MSEL1 (in), M7 MSEL0 (in), N8 DCLK (io), R6 TMS (in), T6 TDI (in), U6 AS_DATA3, DATA3 (io), V7 TDO (out), Y5 TCK (in), Y6 nCSO, DATA4 (out)
part M pins: A10 VCCIO7A (power), A20 VCCIO7A (power), AA8 VCC_AUX (power), AA9 VCCPGM (power), AA10 VCCIO3B (power), AA11 VCCPD3B4A (power), AA13 VCCPD3B4A (power), AA17 VCCPD3B4A (power), AA19 VCCPD3B4A (power), AA20 VCCIO4A (power), AB9 VCCPD3A (power), AB13 VCCIO4A (power), AB14 VCC_AUX (power), AB20 VCC_AUX (power), AB21 VCCPD3B4A (power), AB23 VCCIO5A (power), AC6 VCCIO3A (power), AC7 VREFB3AN0 (power), AC12 VREFB3BN0 (power), AC16 VCCIO4A (power), AD9 VCCIO3B (power), AD15 VREFB4AN0 (power), AD19 VCCIO4A (power), AE12 VCCIO4A (power), AE22 VCCIO4A (power), AF15 VCCIO4A (power), B13 VCCIO7A (power), B16 VREFB7AN0 (power), B23 VCCIO7A (power), C6 VCCIO8A (power), C8 VREFB8AN0 (power), C16 VCCIO7A (power), C26 VCCIO6A (power), D9 VCCIO8A (power), D19 VCCIO7A (power), E8 VCCBAT (power), E12 VCCIO7A (power), E14 VCC_AUX (power), E22 VCCIO6A (power), F8 VCCPGM (power), F9 VCCPD7A8A (power), F11 VCCPD7A8A (power), F13 VCCPD7A8A (power), F15 VCCIO7A (power), F17 VCCPD7A8A (power), F19 VCCPD7A8A (power), F25 VCCIO6A (power), G8 VCCIO8A (power), G9 VCC_AUX (power), G18 VCCIO7A (power), G19 VCC_AUX (power), G21 VCCA_FPLL (power), H11 VCCIO7A (power), H21 VCCIO6A (power), J3 VCCL_GXBL (power), J6 VCCA_FPLL (power), J13 VCC (power), J15 VCC (power), J17 VCC (power), J19 VCC (power), J22 VCCPD6A (power), J24 VCCIO6A (power), K4 VCCE_GXBL (power), K7 VCCIO8A (power), K14 VCC (power), K16 VCC (power), K18 VCC (power), K20 VCC (power), L3 VCCH_GXBL (power), L13 VCC (power), L15 VCC (power), L17 VCC (power), L19 VCC (power), L21 VCCPD6A (power), L26 VREFB6AN0 (power), M4 VCCE_GXBL (power), M14 VCC (power), M16 VCC (power), M18 VCC (power), M20 VCC (power), M23 VCCIO6A (power), N3 VCCL_GXBL (power), N5 VCCE_GXBL (power), N13 VCC (power), N15 VCC (power), N17 VCC (power), N19 VCC (power), N22 VCCPD5B (power), N26 VCCIO5B (power), P4 VCCE_GXBL (power), P14 VCC (power), P16 VCC (power), P18 VCC (power), P25 VREFB5BN0 (power), R3 VCCH_GXBL (power), R5 VCCE_GXBL (power), R13 VCC (power), R15 VCC (power), R17 VCC (power), R19 VCC (power), R21 VCCPD5B (power), R22 VCCIO5B (power), T4 VCCH_GXBL (power), T14 VCC (power), T16 VCC (power), T18 VCC (power), T25 VCCIO5B (power), U3 VCCL_GXBL (power), U5 VCCE_GXBL (power), U8 VCCIO3B (power), U18 VCCIO4A (power), U21 VCCPD5A (power), V11 VCCIO3B (power), V21 VCCIO5A (power), W7 VCCA_FPLL (power), W14 VCCIO4A (power), W22 VCCPGM (power), W23 VREFB5AN0 (power), W24 VCCIO5B (power), Y7 VCCIO3A (power), Y17 VCCIO4A (power), Y21 VCCA_FPLL (power)
part N pins: A15 GND (power), A25 GND (power), AA1 GND (power), AA2 GND (power), AA5 GND (power), AA15 GND (power), AA25 GND (power), AB3 GND (power), AB4 GND (power), AB8 GND (power), AB18 GND (power), AC1 GND (power), AC2 GND (power), AC5 GND (power), AC11 GND (power), AC21 GND (power), AC26 GND (power), AD3 GND (power), AD4 GND (power), AD14 GND (power), AD24 GND (power), AE1 GND (power), AE2 GND (power), AE5 GND (power), AE7 GND (power), AE17 GND (power), AF2 GND (power), AF3 GND (power), AF4 GND (power), AF10 GND (power), AF20 GND (power), AF25 GND (power), B2 GND (power), B3 GND (power), B4 GND (power), B8 GND (power), B18 GND (power), C1 GND (power), C2 GND (power), C5 GND (power), C11 GND (power), C21 GND (power), D3 GND (power), D4 GND (power), D14 GND (power), D23 GND (power), D24 GND (power), E1 GND (power), E2 GND (power), E5 GND (power), E7 GND (power), E17 GND (power), F3 GND (power), F4 GND (power), F10 GND (power), F20 GND (power), G1 GND (power), G2 GND (power), G5 GND (power), G13 GND (power), G23 GND (power), H3 GND (power), H4 GND (power), H5 GND (power), H6 GND (power), H16 GND (power), H26 GND (power), J1 GND (power), J2 GND (power), J4 GND (power), J9 GND (power), J14 GND (power), J18 GND (power), K3 GND (power), K12 GND (power), K13 GND (power), K15 GND (power), K17 GND (power), K19 GND (power), K22 GND (power), L1 GND (power), L2 GND (power), L4 GND (power), L10 GND (power), L14 GND (power), L16 GND (power), L18 GND (power), L20 GND (power), L25 GND (power), M3 GND (power), M5 GND (power), M8 GND (power), M13 GND (power), M15 GND (power), M17 GND (power), M19 GND (power), N1 GND (power), N2 GND (power), N4 GND (power), N6 GND (power), N11 GND (power), N14 GND (power), N16 GND (power), N18 GND (power), N21 GND (power), P3 GND (power), P5 GND (power), P7 GND (power), P9 GND (power), P13 GND (power), P15 GND (power), P17 GND (power), P19 GND (power), P24 GND (power), R1 GND (power), R2 GND (power), R4 GND (power), R7 GND (power), R12 GND (power), R14 GND (power), R16 GND (power), R18 GND (power), T3 GND (power), T5 GND (power), T10 GND (power), T15 GND (power), T20 GND (power), U1 GND (power), U2 GND (power), U4 GND (power), U13 GND (power), U23 GND (power), V3 GND (power), V4 GND (power), V5 GND (power), V16 GND (power), V26 GND (power), W1 GND (power), W2 GND (power), W5 GND (power), W9 GND (power), W19 GND (power), Y3 GND (power), Y4 GND (power), Y12 GND (power), Y22 GND (power)
part O pins: A3 DNU, A4 DNU, AA12 DNU, AB7 DNU, B1 RREF_TL, C24 DNU, F14 DNU
part A text: BANK 3A
part B text: BANK 3B
part C text: BANK 4A
part D text: BANK 5A
part E text: BANK 5B
part F text: BANK 6A
part G text: BANK 7A
part H text: BANK 8A

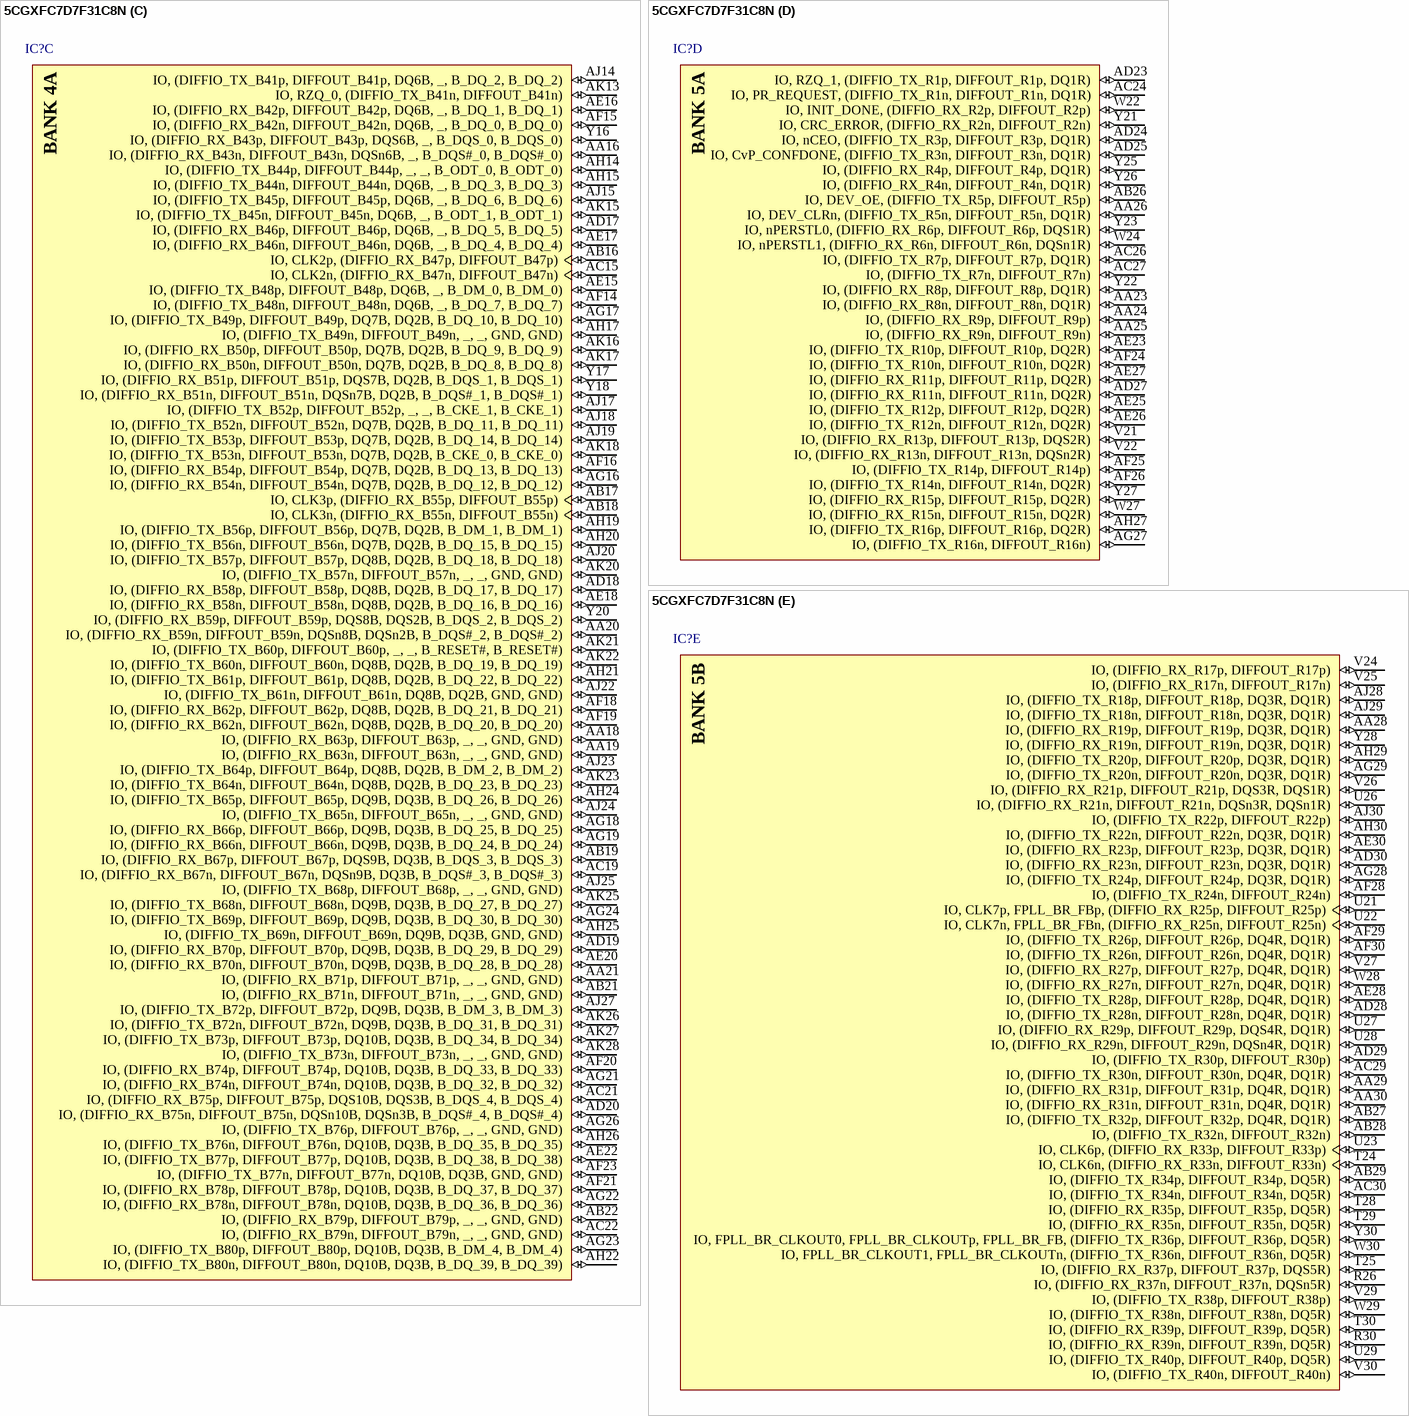
[diagram p12: symbol 5CGXFC7D7F31C8N]

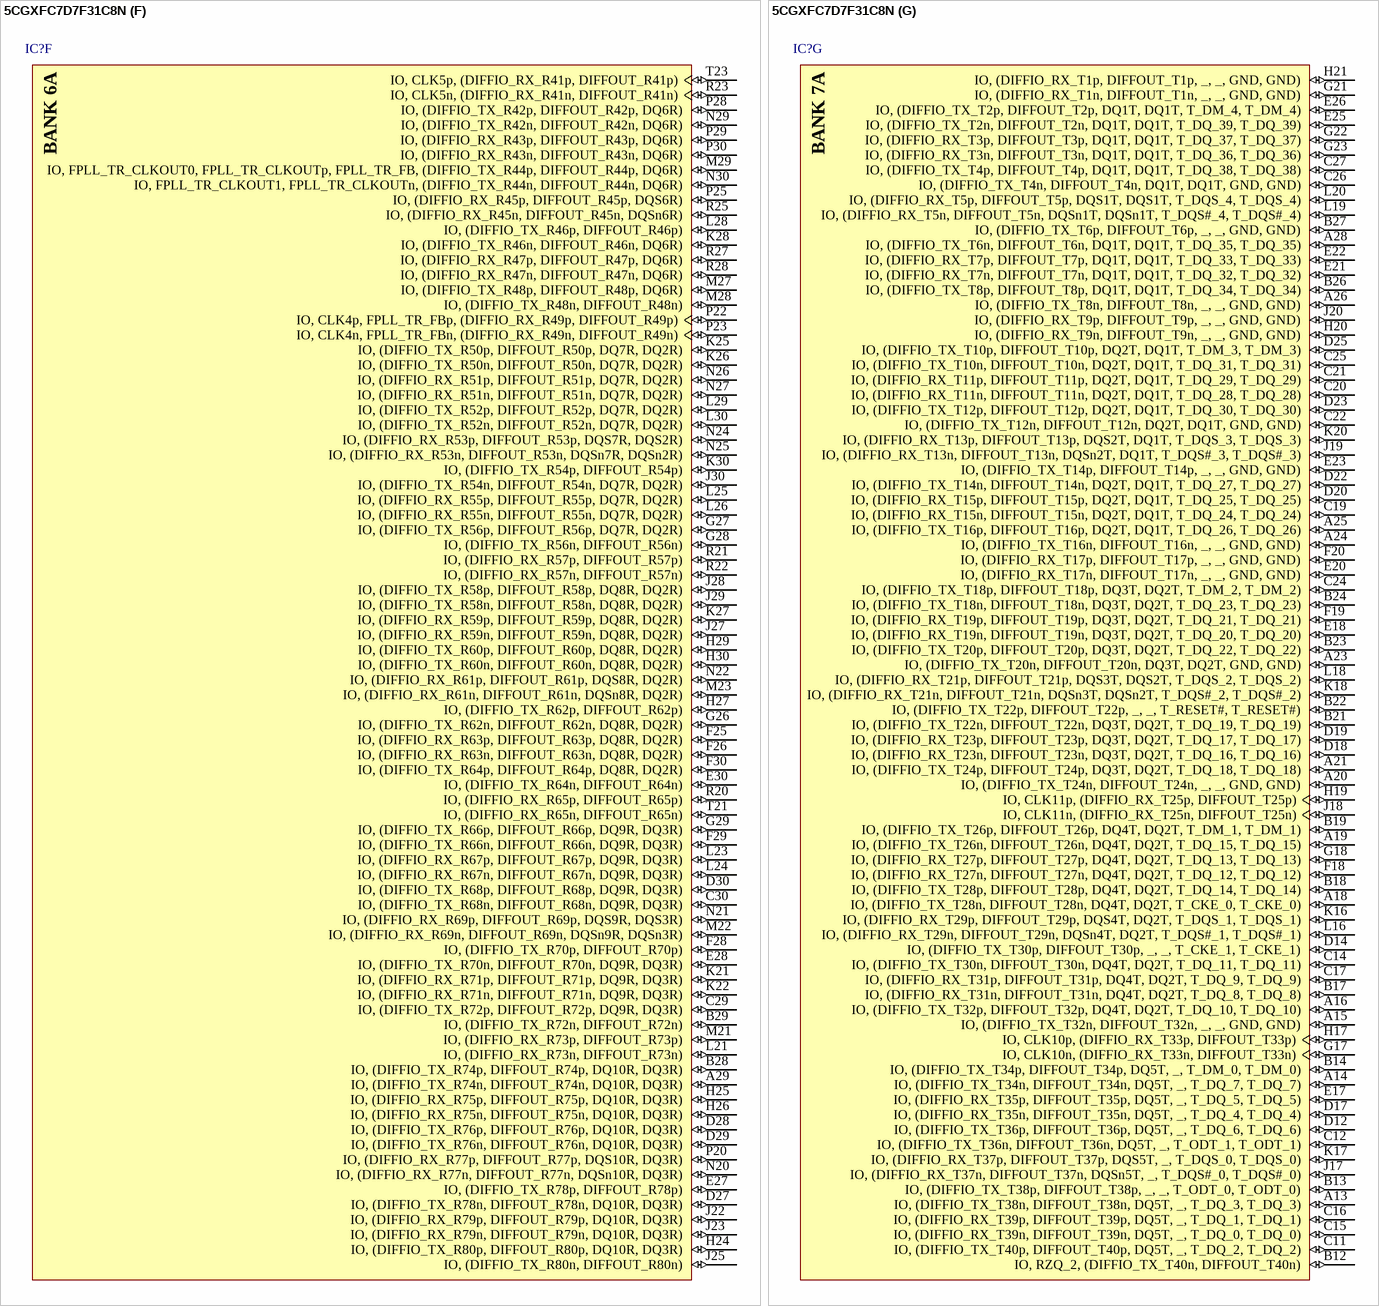
[diagram p13: symbol 5CGXFC7D7F31C8N]

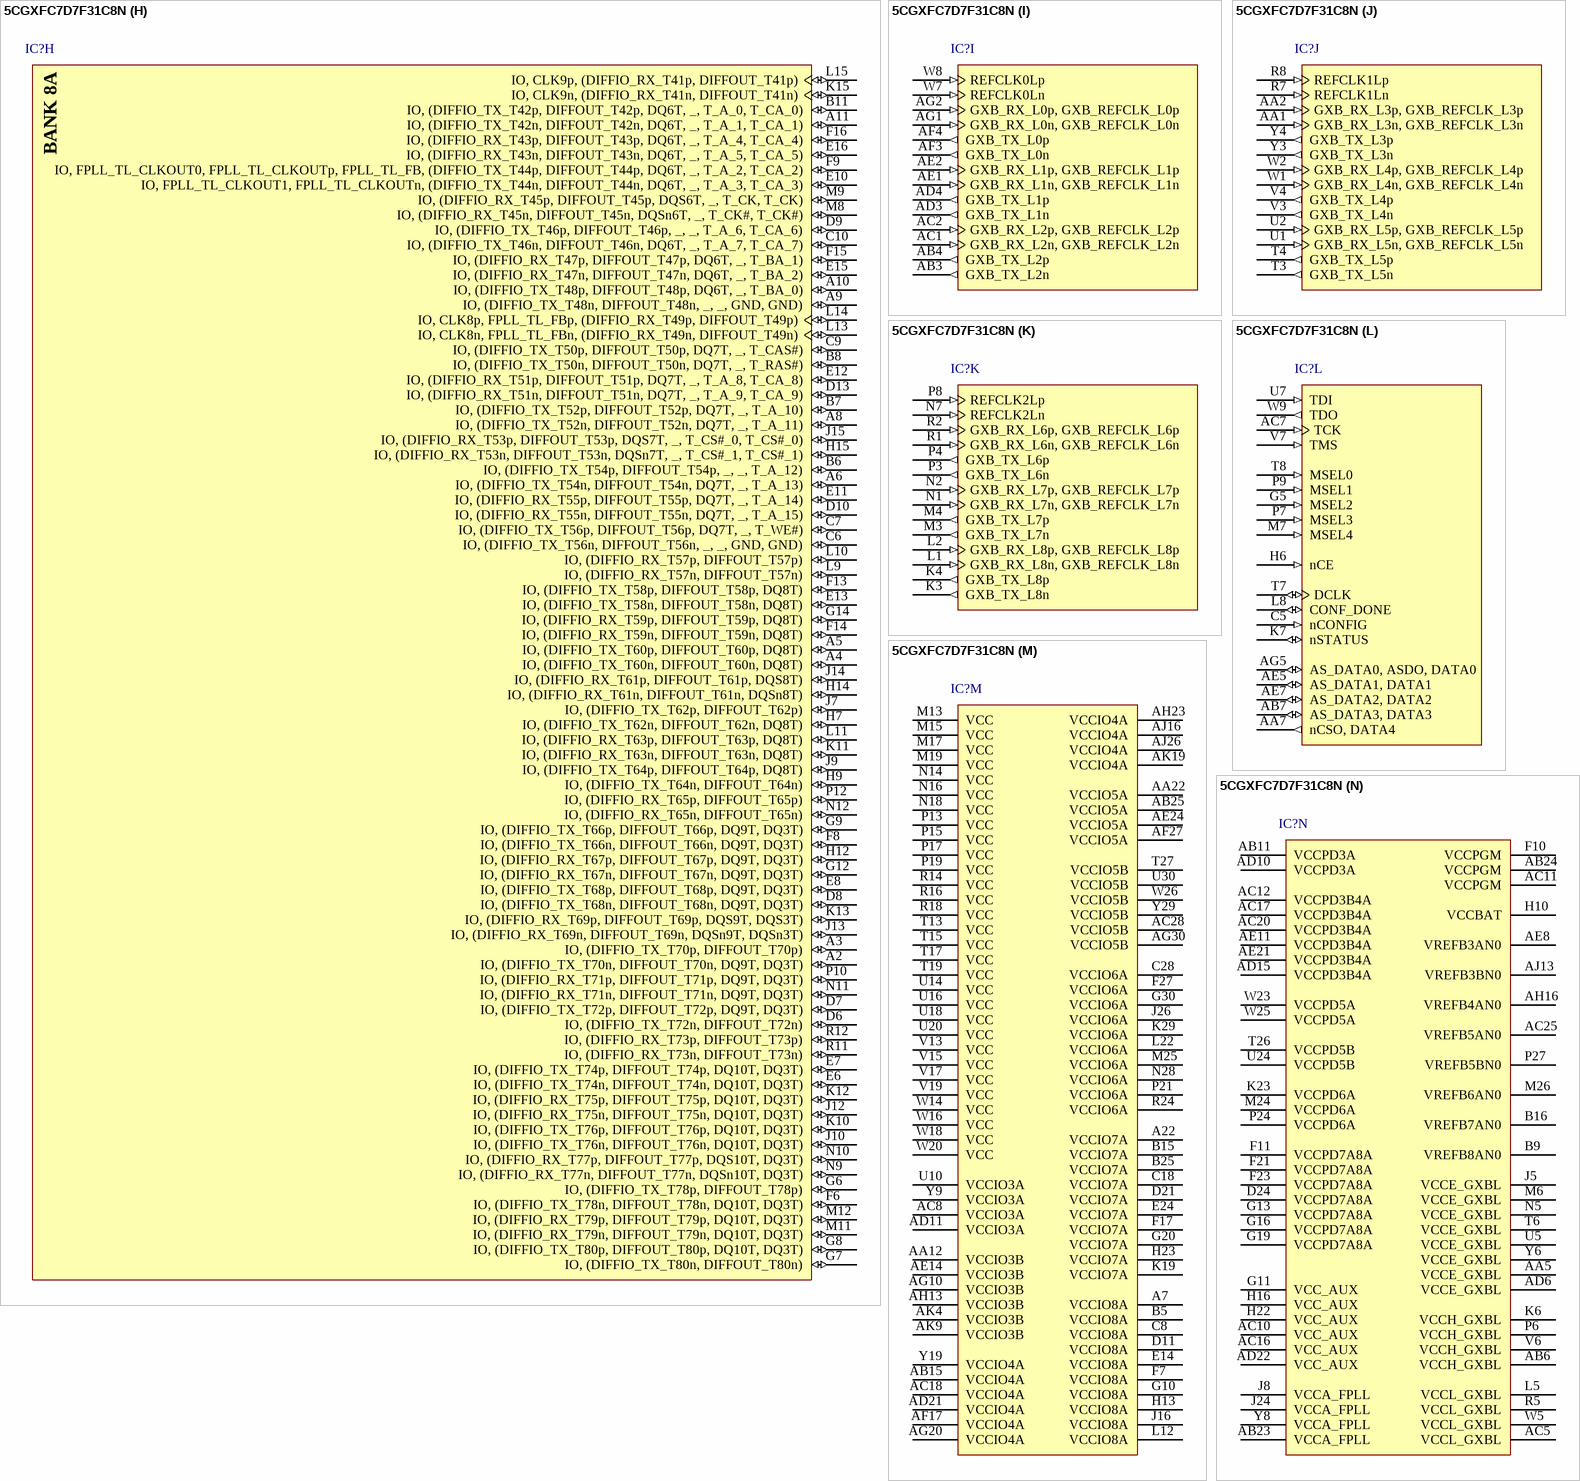
[diagram p14: symbol 5CGXFC7D7F31C8N]

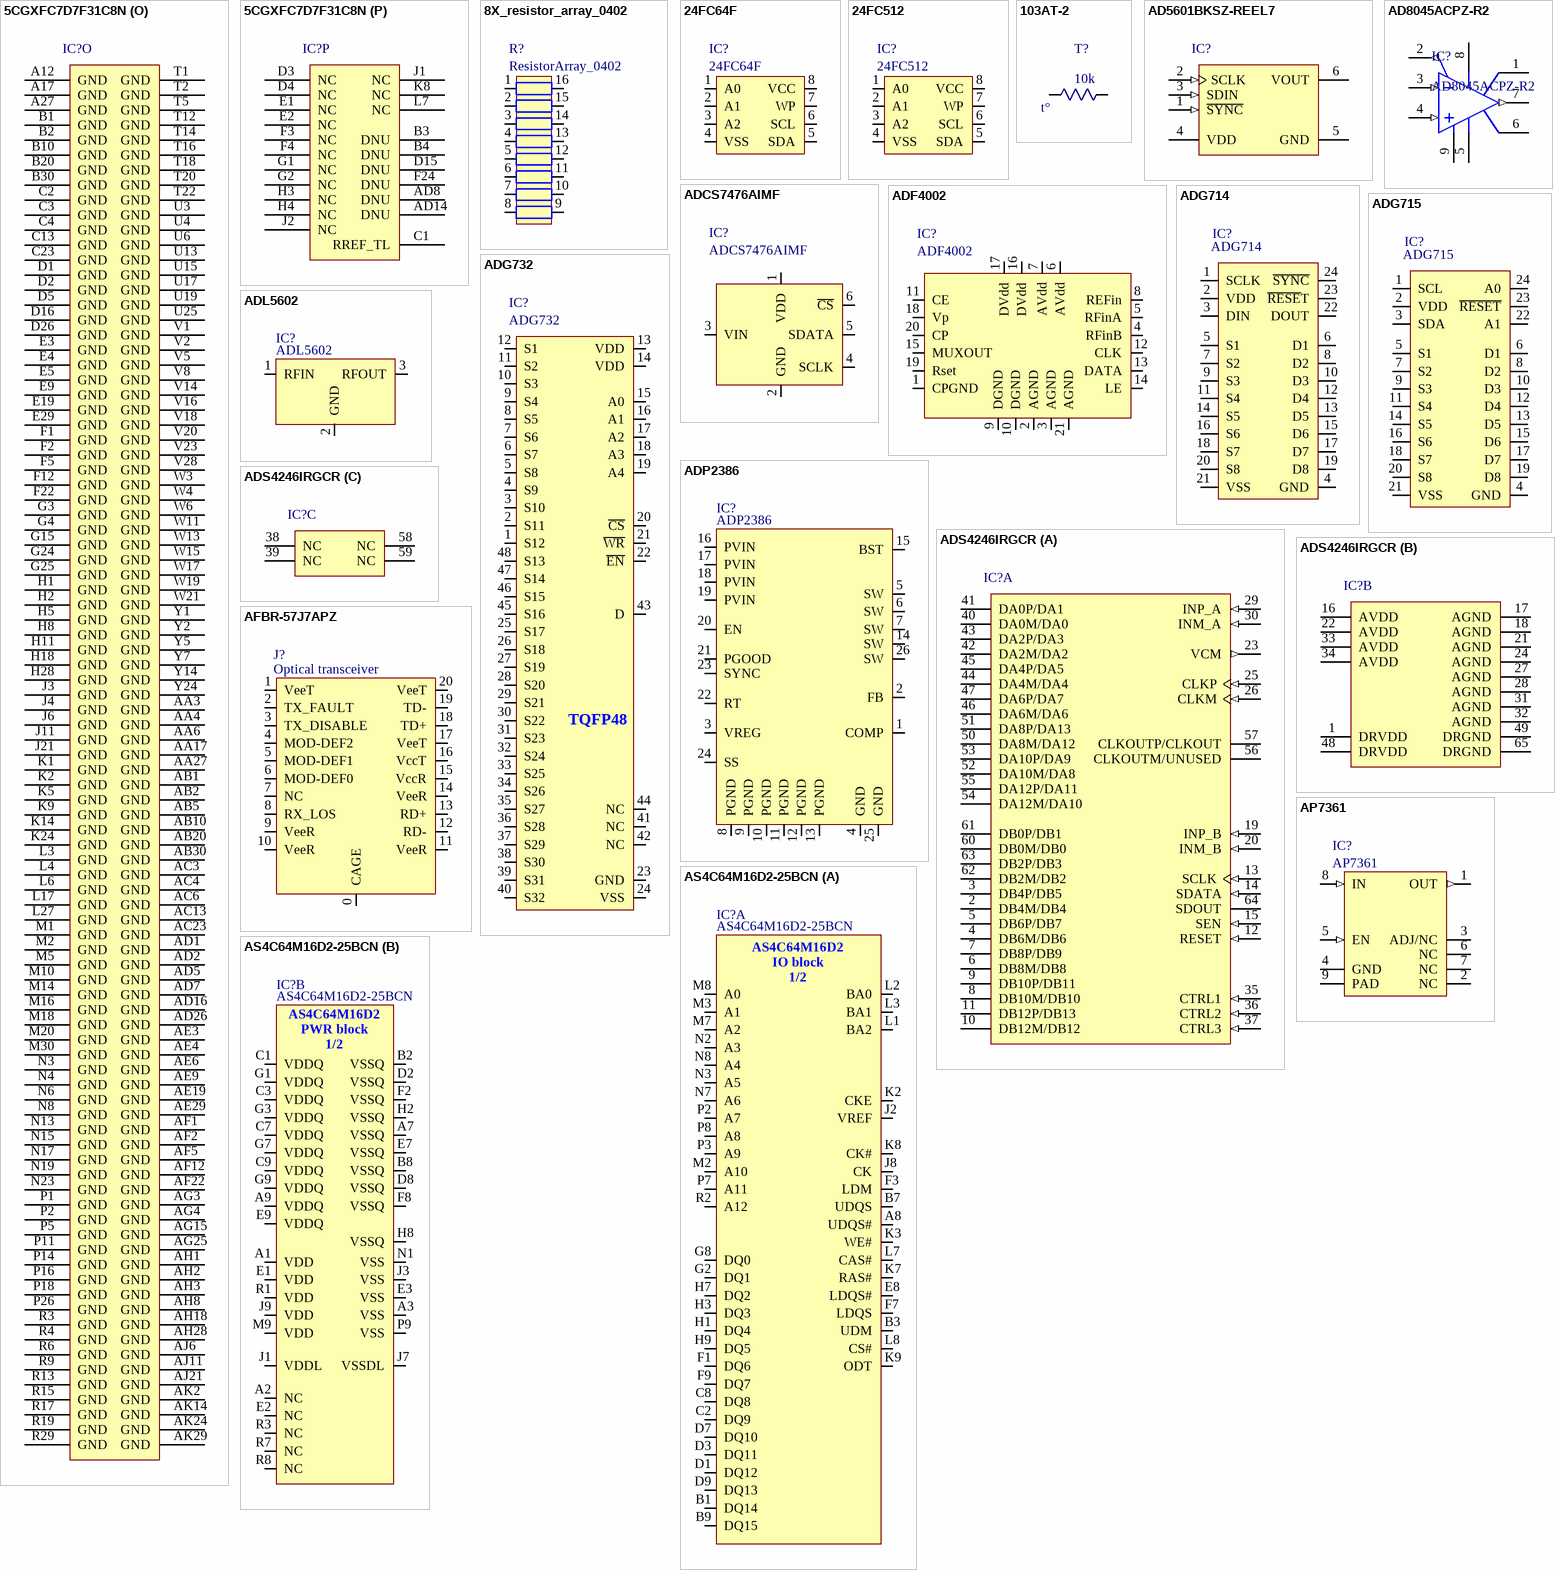
[diagram p15: symbols 5CGXFC7D7F31C8N to AS4C64M16D2-25BCN]